# Altium footprint library A-865_ATMEGA1_BHARAT AERO (1).PcbLib: 19 footprints (part 2 of 2)
Each footprint in its own frame and in the unit in brackets; x right, y up, seen from the top. Pads: shape width x height; smd on the part's side, far side on the other; paste and mask are expansions set on the pad; w line width, h text height; cw(c..) or ccw(c..) is an arc to the next point about the centre after c.
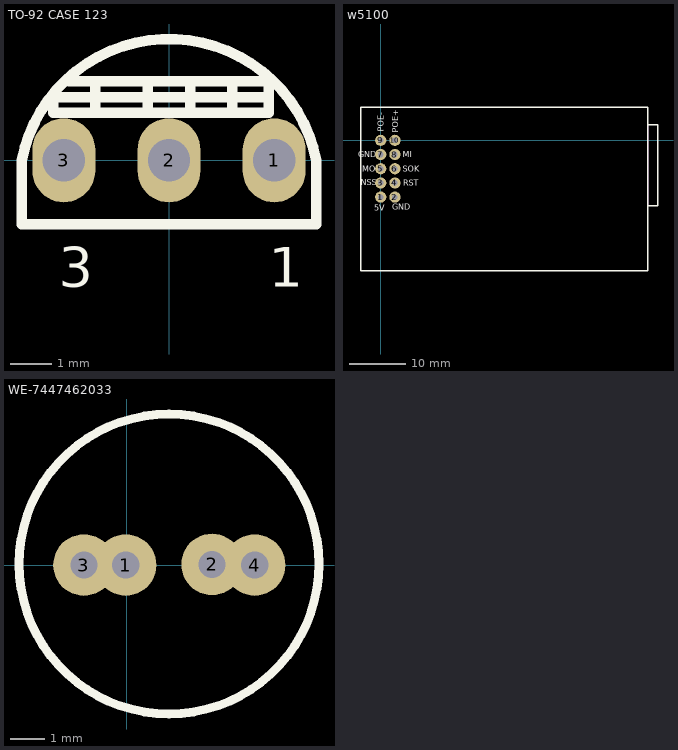
[diagram p1: the footprints below, top view; thin cyan lines are the x and y axes]

## TO-92 CASE 123 [mm]
pads (3):
  oval 1.52x2.029 hole 1.019: 1(2.54,0) 2(0,0) 3(-2.54,0)
Top Overlay:
  lines w0.254: -2.413,1.905 2.413,1.905 2.413,1.143 -2.794,1.143 -2.794,1.524 2.413,1.524 ; -1.778,1.143 -1.778,1.905 ; -0.508,1.27 -0.508,1.905 ; 0.508,1.143 0.508,1.905 ; 1.524,1.143 1.524,1.905 ; -3.556,-1.549 3.556,-1.549 3.556,0 ccw(c0,-0.693) -3.556,0 -3.556,-1.549
  text "3" at -2.667,-3.048 h0.95
  text "1" at 2.413,-3.048 h0.95

## w5100 [mm]
pads (10):
  round 2 hole 1: 1(0,-10.16) 2(2.54,-10.16) 3(0,-7.62) 4(2.54,-7.62) 5(0,-5.08) 6(2.54,-5.08) 7(0,-2.54) 8(2.54,-2.54) 9(0,0) 10(2.54,0)
Top Overlay:
  lines w0.254: 47.754,-11.74 49.589,-11.74 49.589,2.785 47.754,2.785 ; -3.607,-23.292 -3.607,5.885 47.754,5.885 47.754,-23.292 -3.607,-23.292
  text "POE-" at 0.508,1.524 h1.02
  text "POE+" at 3.175,1.397 h1.02
  text "GND" at -4.064,-3.048 h1.02
  text "MI" at 3.937,-3.048 h1.02
  text "MO" at -3.302,-5.588 h1.02
  text "SOK" at 3.937,-5.588 h1.02
  text "NSS" at -3.607,-8.001 h1.02
  text "RST" at 4.064,-8.128 h1.02
  text "5V" at -1.143,-12.573 h1.02
  text "GND" at 2.032,-12.446 h1.02
Mechanical 1:
  lines w0.254: 47.754,-11.74 47.754,2.785

## WE-7447462033 [mm]
pads (4):
  round 1.8 hole 0.8: 1(-0.029,0) 2(2.5,0.018) 3(-1.25,0) 4(3.75,0)
Top Overlay:
  circle w0.254: c1.24,0.03 r4.392